# EAGLE library part 74LVC1G5X (library wg_library)
SN74LVC1G57/58 Configurable Multiple-Function Gate Source: http://www.ti.com/lit/ds/symlink/sn74lvc1g57.pdf
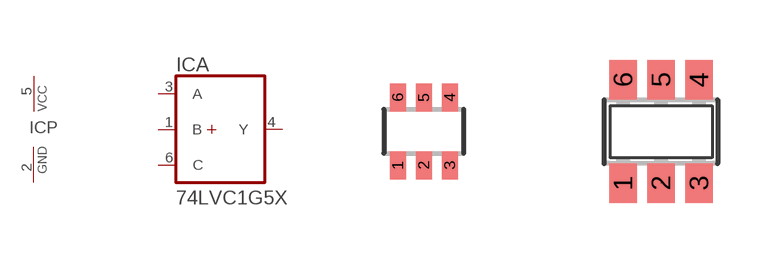
[diagram p6: symbol with the pads of SC70-6; footprints SC70-6, SOT23-6]

Designator prefix IC; gates A=74LVC1G58 P=74LVCPWRN

## 74LVC1G5XDCK  [SC70-6]
1  A:B  in
2  P:GND  pwr
3  A:A  in
4  A:Y  out
5  P:VCC  pwr
6  A:C  in

## 74LVC1G5XDBV  [SOT23-6]
Pads as for SC70-6

## Footprint SC70-6 (pad centres in mm)
smd 0.4 x 0.7: 1 -0.65,-0.85; 2 0,-0.85; 3 0.65,-0.85; 4 0.65,0.85; 5 0,0.85; 6 -0.65,0.85

## Footprint SOT23-6 (pad centres in mm)
smd 0.69 x 0.99: 1 -0.95,-1.29; 2 0,-1.29; 3 0.95,-1.29; 4 0.95,1.3; 5 0,1.3; 6 -0.95,1.3